# Altium footprint library Hello.PcbLib: 234 footprints (part 8 of 15)
Each footprint in its own frame and in the unit in brackets; x right, y up, seen from the top. Pads: shape width x height; smd on the part's side, far side on the other; paste and mask are expansions set on the pad; w line width, h text height; cw(c..) or ccw(c..) is an arc to the next point about the centre after c.
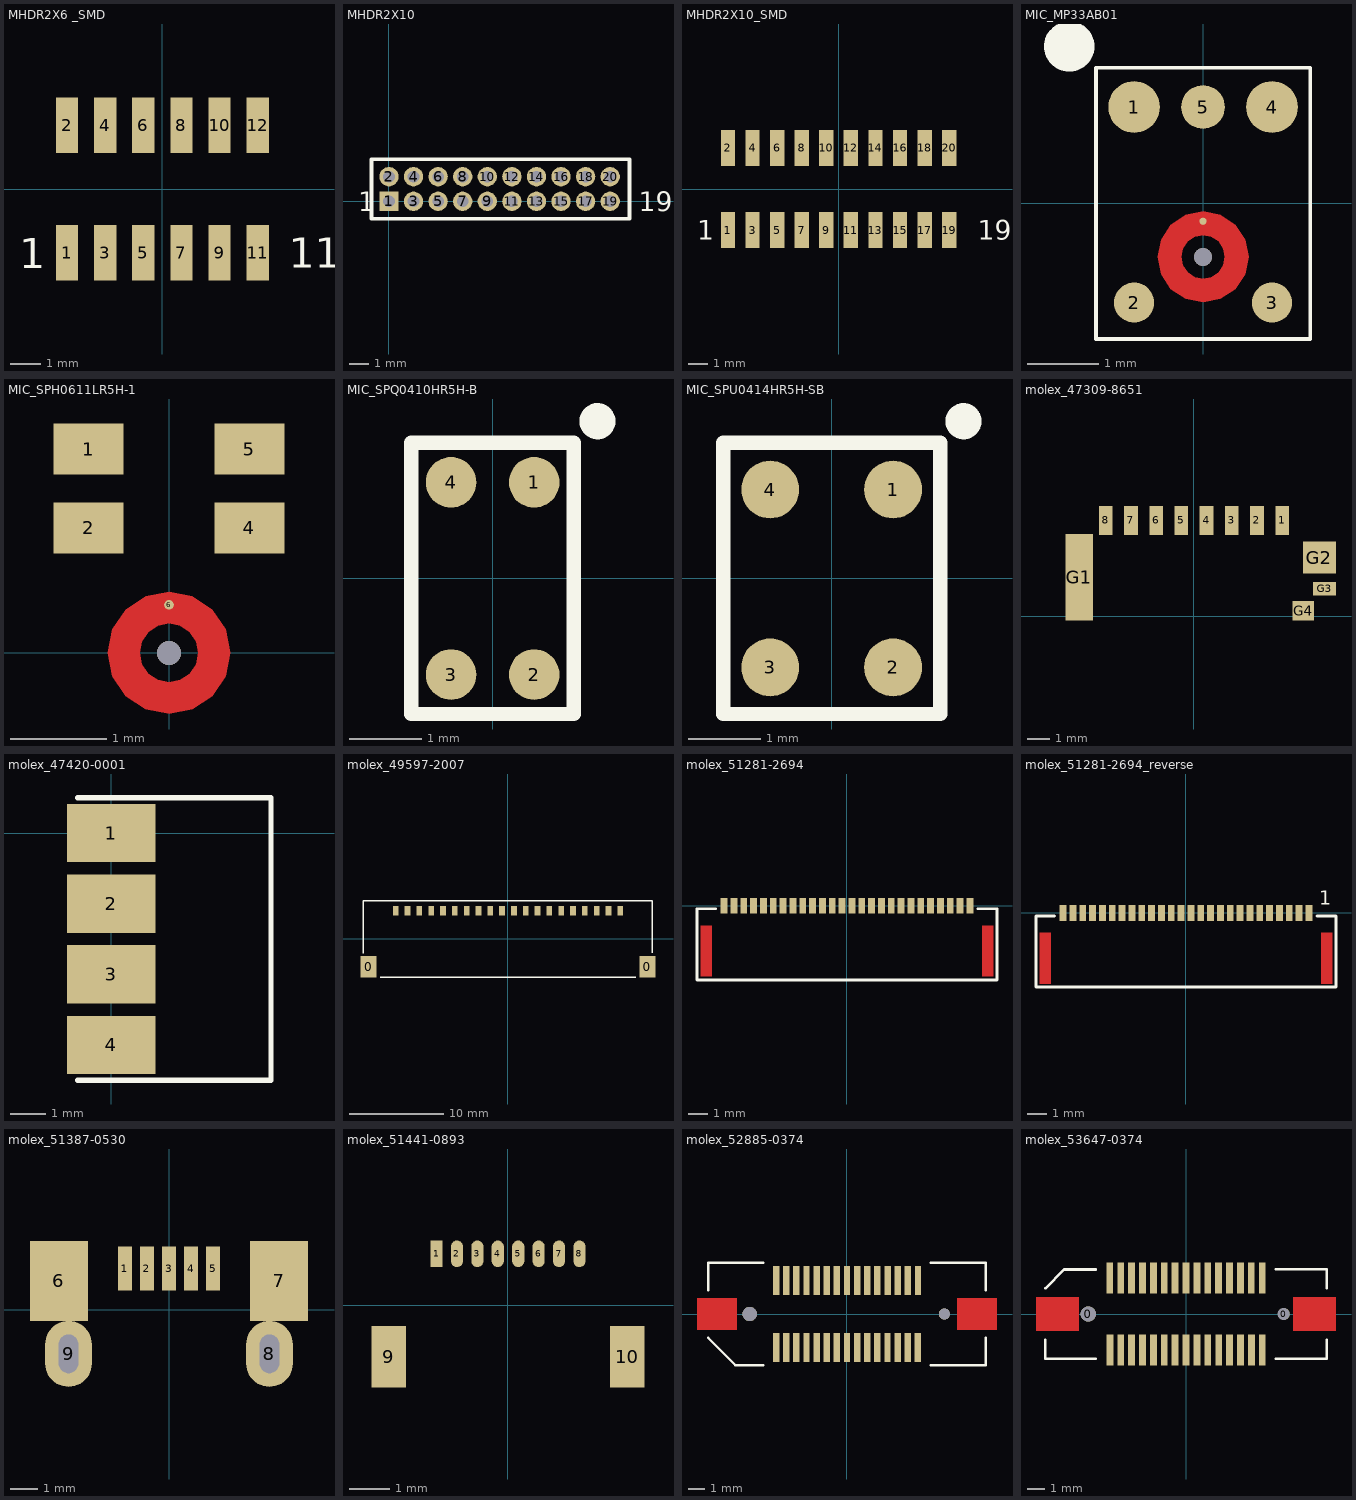
[diagram p7: the footprints below, top view; thin cyan lines are the x and y axes]

## MHDR2X6 _SMD [mm] "Connector; Header; 6x2 Position SMD"
pads (12):
  rect 0.74x1.85 smd: 1(-3.175,-2.125) 2(-3.175,2.125) 3(-1.905,-2.125) 4(-1.905,2.125) 5(-0.635,-2.125) 6(-0.635,2.125) 7(0.635,-2.125) 8(0.635,2.125) 9(1.905,-2.125) 10(1.905,2.125) 11(3.175,-2.125) 12(3.175,2.125)
Top Overlay:
  text "1" at -4.775,-2.633 h1
  text "11" at 4.215,-2.625 h1
3D body: height 6.1, standoff -0.05, extent -4.015,-2.2 4.015,2.175

## MHDR2X10 [mm] "Connector; Header; 10x2 Position"
pads (20):
  rect 1x1 hole 0.6: 1(0,0)
  round 1 hole 0.6: 2(0,1.27) 3(1.27,0) 4(1.27,1.27) 5(2.54,0) 6(2.54,1.27) 7(3.81,0) 8(3.81,1.27) 9(5.08,0) 10(5.08,1.27) 11(6.35,0) 12(6.35,1.27) 13(7.62,0) 14(7.62,1.27) 15(8.89,0) 16(8.89,1.27) 17(10.16,0) 18(10.16,1.27) 19(11.43,0) 20(11.43,1.27)
Top Overlay:
  lines w0.2: -0.9,-0.9 -0.9,2.17 12.43,2.17 12.43,-0.9 -0.9,-0.9
  text "19" at 12.9,-0.508 h1
  text "1" at -1.6,-0.508 h1

## MHDR2X10_SMD [mm] "Connector; Header; 10x2 Position SMD"
pads (20):
  rect 0.74x1.85 smd: 1(-5.715,-2.125) 2(-5.715,2.125) 3(-4.445,-2.125) 4(-4.445,2.125) 5(-3.175,-2.125) 6(-3.175,2.125) 7(-1.905,-2.125) 8(-1.905,2.125) 9(-0.635,-2.125) 10(-0.635,2.125) 11(0.635,-2.125) 12(0.635,2.125) 13(1.905,-2.125) 14(1.905,2.125) 15(3.175,-2.125) 16(3.175,2.125) 17(4.445,-2.125) 18(4.445,2.125) 19(5.715,-2.125) 20(5.715,2.125)
Top Overlay:
  text "19" at 7.185,-2.633 h1
  text "1" at -7.315,-2.633 h1
3D body: height 6.3, standoff -0.05, extent -6.555,-2.95 6.555,2.95

## MIC_MP33AB01 [mm] "ST MEMS analog bottom-port microphone"
height 1
pads (6):
  round 0.723 smd: 1(-0.966,1.35) 4(0.966,1.35)
  round 0.562 smd: 2(-0.966,-1.39) 3(0.966,-1.39)
  round 0.612 smd: 5(0,1.35)
  round 0.1 smd paste-1 mask-1: 6(0,-0.25)
via 0,-0.75 diameter 0.25 hole 0.25
Top Layer:
  region: -0.625,-0.75 -0.306,-0.75 -0.283,-0.867 -0.216,-0.966 -0.117,-1.033 0,-1.056 0,-1.05 0,-1.387 -0.244,-1.339 -0.451,-1.201 -0.589,-0.994 -0.637,-0.75
  region: 0.625,-0.75 0.306,-0.75 0.283,-0.867 0.216,-0.966 0.117,-1.033 0,-1.056 0,-1.05 0,-1.387 0.244,-1.339 0.451,-1.201 0.589,-0.994 0.637,-0.75
  region: 0.625,-0.75 0.306,-0.75 0.283,-0.633 0.216,-0.534 0.117,-0.467 0,-0.444 0,-0.45 0,-0.113 0.244,-0.161 0.451,-0.299 0.589,-0.506 0.637,-0.75
  region: -0.625,-0.75 -0.306,-0.75 -0.283,-0.633 -0.216,-0.534 -0.117,-0.467 0,-0.444 0,-0.45 0,-0.113 -0.244,-0.161 -0.451,-0.299 -0.589,-0.506 -0.637,-0.75
Top Overlay:
  circle w0.5: c-1.875,2.2 r0.103
  lines w0.05: -1.5,-1.9 -1.5,1.9 1.5,1.9 1.5,-1.9 -1.5,-1.9
3D body: height 1, standoff 0, extent -1.5,-1.9 1.5,1.9

## MIC_SPH0611LR5H-1 [mm] "Knowles SiSonic Microphone, 3.5x2.65mm"
height 1
pads (5):
  rect 0.73x0.53 smd paste-0.1: 1(-0.837,2.122) 2(-0.837,1.3) 4(0.837,1.3) 5(0.837,2.122)
  round 0.1 smd paste-1 mask-1: 6(0,0.5)
via 0,0 diameter 0.25 hole 0.25
Top Layer:
  region: -0.625,0 -0.306,0 -0.283,0.117 -0.216,0.216 -0.117,0.283 0,0.306 0,0.3 0,0.637 -0.244,0.589 -0.451,0.451 -0.589,0.244 -0.637,0
  region: 0.625,0 0.306,0 0.283,0.117 0.216,0.216 0.117,0.283 0,0.306 0,0.3 0,0.637 0.244,0.589 0.451,0.451 0.589,0.244 0.637,0
  region: 0.625,0 0.306,0 0.283,-0.117 0.216,-0.216 0.117,-0.283 0,-0.306 0,-0.3 0,-0.637 0.244,-0.589 0.451,-0.451 0.589,-0.244 0.637,0
  region: -0.625,0 -0.306,0 -0.283,-0.117 -0.216,-0.216 -0.117,-0.283 0,-0.306 0,-0.3 0,-0.637 -0.244,-0.589 -0.451,-0.451 -0.589,-0.244 -0.637,0
3D body: height 1, standoff 0, extent -1.35,-1.05 1.35,2.5

## MIC_SPQ0410HR5H-B [mm] "Knowles analog microphone"
height 1.1
pads (4):
  round 0.7 smd: 1(0.575,1.33) 2(0.575,-1.33) 3(-0.575,-1.33) 4(-0.575,1.33)
Top Overlay:
  circle w0.3: c1.45,2.175 r0.1
  lines w0.2: -1.125,-1.875 1.125,-1.875 1.125,1.875 -1.125,1.875 -1.125,-1.875
3D body: height 1.1, standoff 0, extent -1.125,-1.875 1.125,1.875

## MIC_SPU0414HR5H-SB [mm] "Knowles analog microphone"
height 1.1
pads (4):
  round 0.8 smd: 1(0.85,1.23) 2(0.85,-1.23) 3(-0.85,-1.23) 4(-0.85,1.23)
Top Overlay:
  circle w0.3: c1.825,2.175 r0.1
  lines w0.2: -1.5,-1.875 1.5,-1.875 1.5,1.875 -1.5,1.875 -1.5,-1.875
3D body: height 1.1, standoff 0, extent -1.5,-1.875 1.5,1.875

## molex_47309-8651 [mm] "molex sd card connector"
pads (12):
  rect 0.6x1.25 smd: 1(3.85,4.175) 2(2.75,4.175) 3(1.65,4.175) 4(0.55,4.175) 5(-0.55,4.175) 6(-1.65,4.175) 7(-2.75,4.175) 8(-3.85,4.175)
  rect 1.2x3.79 smd: G1(-5,1.7)
  rect 1.45x1.4 smd: G2(5.475,2.55)
  rect 1x0.6 smd: G3(5.7,1.2)
  rect 0.95x0.85 smd: G4(4.775,0.225)
3D body: height 2.65, standoff 0, extent -5.4,0 6,5.5

## molex_47420-0001 [mm] "Molex 4-pin spring connector"
height 2.6
pads (4):
  rect 2.5x1.65 smd: 1(0,0) 2(0,-2) 3(0,-4) 4(0,-6)
Top Overlay:
  lines w0.15: -0.95,-7 4.525,-7 4.525,1 -0.95,1
3D body: height 2.6, standoff 0, extent -0.95,-7 4.53,1

## molex_49597-2007 [mm] "Molex 20-pin 1.25mm pitch connector"
height 2.8
pads (22):
  rect 1.7x2.25 smd: 0(-14.725,-2.962) 0(14.725,-2.962)
  rect 0.6x1 smd: 1(-11.875,2.963) 2(-10.625,2.963) 3(-9.375,2.963) 4(-8.125,2.963) 5(-6.875,2.963) 6(-5.625,2.963) 7(-4.375,2.963) 8(-3.125,2.963) 9(-1.875,2.963) 10(-0.625,2.963) 11(0.625,2.963) 12(1.875,2.963) 13(3.125,2.963) 14(4.375,2.963) 15(5.625,2.963) 16(6.875,2.963) 17(8.125,2.963) 18(9.375,2.963) 19(10.625,2.963) 20(11.875,2.963)
Top Overlay:
  lines w0.15: -15.3,-1.55 -15.3,4.025 15.25,4.025 15.25,-1.475 ; -13.525,-4.1 13.475,-4.1
3D body: height 2.73, standoff -0.07, extent -15.3,-4.095 15.25,4.015

## molex_51281-2694 [mm] "Molex 26-pin 0.5mm pitch connector"
height 1.2
pads (26):
  rect 0.35x0.8 smd: 1(-6.25,0) 2(-5.75,0) 3(-5.25,0) 4(-4.75,0) 5(-4.25,0) 6(-3.75,0) 7(-3.25,0) 8(-2.75,0) 9(-2.25,0) 10(-1.75,0) 11(-1.25,0) 12(-0.75,0) 13(-0.25,0) 14(0.25,0) 15(0.75,0) 16(1.25,0) 17(1.75,0) 18(2.25,0) 19(2.75,0) 20(3.25,0) 21(3.75,0) 22(4.25,0) 23(4.75,0) 24(5.25,0) 25(5.75,0) 26(6.25,0)
Top Layer:
  rectangle: 6.85,-3.6 7.45,-1
  rectangle: -7.45,-3.6 -6.85,-1
Top Overlay:
  lines w0.15: -6.675,-0.15 -7.625,-0.15 -7.625,-3.775 7.625,-3.775 7.625,-0.15 6.65,-0.15
3D body: height 1.15, standoff -0.05, extent -7.55,-3.775 7.55,0.275

## molex_51281-2694_reverse [mm] "Molex 26-pin 0.5mm pitch connector with reverse pinout"
height 1.2
pads (26):
  rect 0.35x0.8 smd: 1(6.25,0) 2(5.75,0) 3(5.25,0) 4(4.75,0) 5(4.25,0) 6(3.75,0) 7(3.25,0) 8(2.75,0) 9(2.25,0) 10(1.75,0) 11(1.25,0) 12(0.75,0) 13(0.25,0) 14(-0.25,0) 15(-0.75,0) 16(-1.25,0) 17(-1.75,0) 18(-2.25,0) 19(-2.75,0) 20(-3.25,0) 21(-3.75,0) 22(-4.25,0) 23(-4.75,0) 24(-5.25,0) 25(-5.75,0) 26(-6.25,0)
Top Layer:
  rectangle: -7.45,-3.6 -6.85,-1
  rectangle: 6.85,-3.6 7.45,-1
Top Overlay:
  lines w0.15: -6.675,-0.15 -7.625,-0.15 -7.625,-3.775 7.625,-3.775 7.625,-0.15 6.65,-0.15
  text "1" at 6.775,0.425 h0.7
3D body: height 1.15, standoff -0.05, extent -7.55,-3.775 7.55,0.275

## molex_51387-0530 [mm] "Molex right-angle USB Mini-B OTG receptacle with board guide"
height 4.3
pads (9):
  rect 0.5x1.6 smd: 1(-1.6,1.5) 2(-0.8,1.5) 3(0,1.5) 4(0.8,1.5) 5(1.6,1.5)
  rect 2.1x2.9 smd: 6(-4,1.05) 7(4,1.05)
  oval 1.7x2.4 hole 0.7 slot 1.4 at 90 deg: 8(3.65,-1.6) 9(-3.65,-1.6)
3D body: height 4.05, standoff -0.6, extent -4.55,-4.725 4.55,1.975

## molex_51441-0893 [mm]
pads (10):
  rect 0.3x0.65 smd mask+0.07: 1(-1.75,1.262)
  oval 0.3x0.65 smd mask+0.07: 2(-1.25,1.262) 3(-0.75,1.262) 4(-0.25,1.262) 5(0.25,1.262) 6(0.75,1.262) 7(1.25,1.262) 8(1.75,1.262)
  rect 0.85x1.5 smd mask+0.07: 9(-2.925,-1.262) 10(2.925,-1.262)

## molex_52885-0374 [mm] "Molex 30-pin 0.635mm pitch receptacle connector"
height 4.2
pads (32):
  rect 0.4x1.8 smd mask+0.12: 1(-4.445,-2.1) 2(-4.443,2.1) 3(-3.81,-2.1) 4(-3.808,2.1) 5(-3.175,-2.1) 6(-3.173,2.1) 7(-2.54,-2.1) 8(-2.538,2.1) 9(-1.905,-2.1) 10(-1.903,2.1) 11(-1.27,-2.1) 12(-1.268,2.1) 13(-0.635,-2.1) 14(-0.633,2.1) 15(0,-2.1) 16(0.002,2.1) 17(0.635,-2.1) 18(0.637,2.1) 19(1.27,-2.1) 20(1.272,2.1) 21(1.905,-2.1) 22(1.907,2.1) 23(2.54,-2.1) 24(2.542,2.1) 25(3.175,-2.1) 26(3.177,2.1) 27(3.81,-2.1) 28(3.812,2.1) 29(4.445,-2.1) 30(4.447,2.1)
  round 0.9 hole 0.9 unplated: ""(-6.1,0)
  round 0.7 hole 0.7 unplated: ""(6.1,0)
Top Layer:
  region: 9.4,1 6.9,1 6.9,-1 9.4,-1
  rectangle: -9.4,-1 -6.9,1
Top Overlay:
  lines w0.15: -8.7,-1.5 -7,-3.2 -5.25,-3.2 ; -8.7,1.5 -8.7,3.2 -5.25,3.2 ; 5.25,-3.2 8.7,-3.2 8.7,-1.5 ; 5.25,3.2 8.7,3.2 8.7,1.5
3D body: height 4.23, standoff -0.58, extent -8.7,-3.2 8.7,3.2

## molex_53647-0374 [mm] "Molex 30-pin 0.635mm pitch plug connector"
height 7.2
pads (32):
  round 0.9 hole 0.9: 0(-5.7,0)
  round 0.7 hole 0.7: 0(5.7,0)
  rect 0.4x1.8 smd mask+0.12: 1(-4.445,2.1) 2(-4.443,-2.1) 3(-3.81,2.1) 4(-3.808,-2.1) 5(-3.175,2.1) 6(-3.173,-2.1) 7(-2.54,2.1) 8(-2.538,-2.1) 9(-1.905,2.1) 10(-1.903,-2.1) 11(-1.27,2.1) 12(-1.268,-2.1) 13(-0.635,2.1) 14(-0.633,-2.1) 15(0,2.1) 16(0.002,-2.1) 17(0.635,2.1) 18(0.637,-2.1) 19(1.27,2.1) 20(1.272,-2.1) 21(1.905,2.1) 22(1.907,-2.1) 23(2.54,2.1) 24(2.542,-2.1) 25(3.175,2.1) 26(3.177,-2.1) 27(3.81,2.1) 28(3.812,-2.1) 29(4.445,2.1) 30(4.447,-2.1)
Top Layer:
  region: 8.75,1 6.25,1 6.25,-1 8.75,-1
  rectangle: -8.75,-1 -6.25,1
Top Overlay:
  lines w0.15: -8.205,1.496 -8.204,1.496 -7.104,2.596 -5.255,2.596 ; -8.204,-1.504 -8.204,-2.604 -5.254,-2.604 ; 5.25,-2.6 8.2,-2.6 8.2,-1.5 ; 5.251,2.601 8.201,2.601 8.201,1.501
3D body: height 7.2, standoff -0.6, extent -8.2,-2.6 8.2,2.6